# EAGLE library part ISP*? (library VIO_module)
Smart power high-side-switch for industrial applications
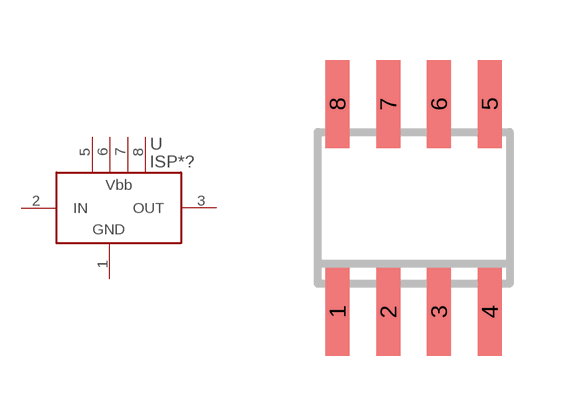
[diagram p1: symbol with the pads of SO08; footprint SO08]

Designator prefix U

## ISP772T  [SO08]
1  GND  in
2  IN  in
3  OUT  out
5  VBB1  in
6  VBB2  in
7  VBB3  in
8  VBB4  in

## Footprint SO08 (pad centres in mm)
SMALL OUTLINE INTEGRATED CIRCUIT body 3.9 mm/JEDEC MS-012AA
smd 0.6 x 2.2: 1 -1.905,-2.6; 2 -0.635,-2.6; 3 0.635,-2.6; 4 1.905,-2.6; 5 1.905,2.6; 6 0.635,2.6; 7 -0.635,2.6; 8 -1.905,2.6